# EAGLE library part W5100 (library WIZNET)
W5100 single-chip Internet-enabled 10/100 Ethernet controller The W5100 is a full-featured, single-chip Internet-enabled 10/100 Ethernet controller designed for embedded applications where ease of integration, stability, performance, area and system cost control are required. The W5100 has been designed to facilitate easy implementation of Internet connectivity without OS. The W5100 is IEEE 802.3 10BASE-T and 802.3u 100BASE-TX compliant.
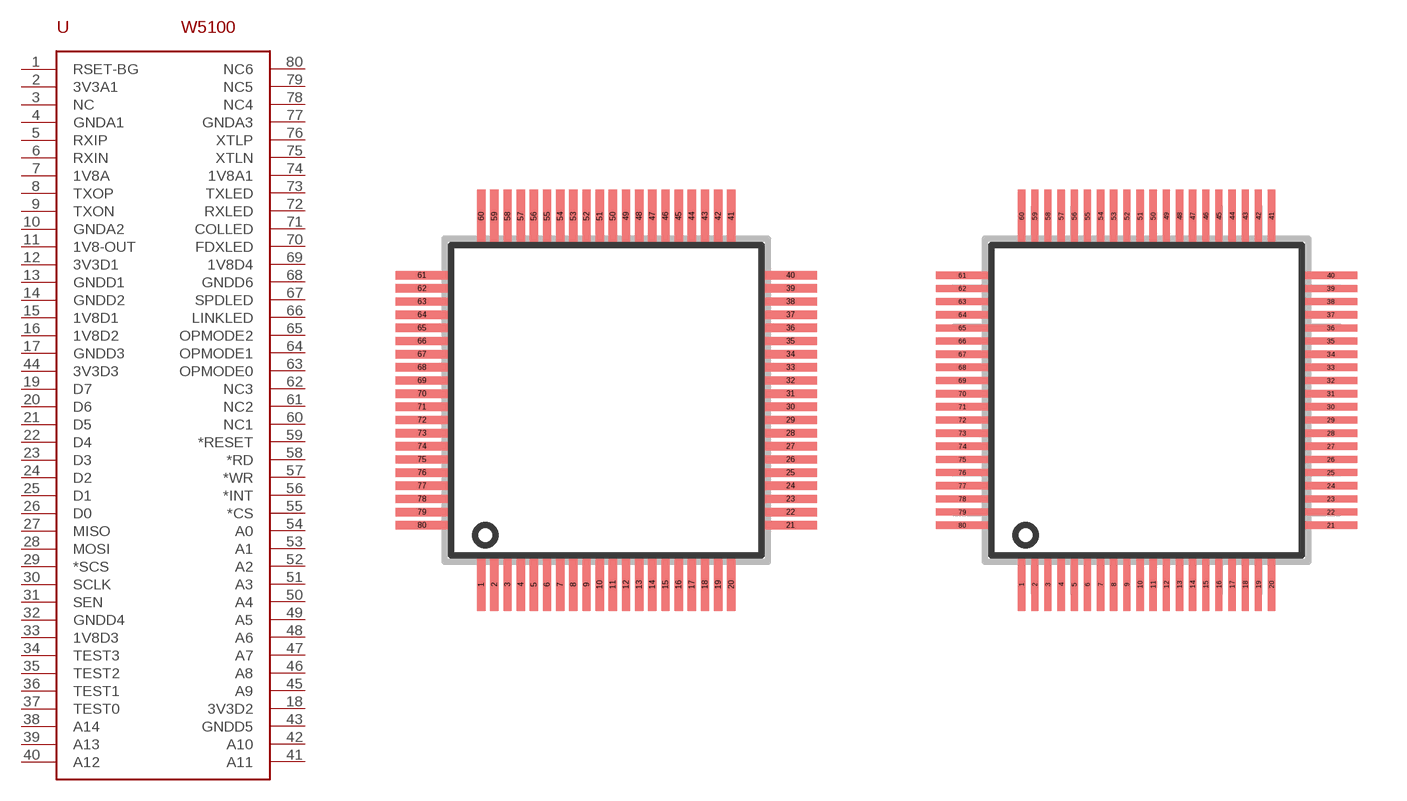
[diagram p0: symbol with the pads of W5100; footprints W5100, W5100SLIM]

Designator prefix -

## W5100NORMAL  [W5100]
1  RSET-BG  in
2  3V3A1  pwr
3  NC  nc
4  GNDA1  pwr
5  RXIP  in
6  RXIN  in
7  1V8A  pwr
8  TXOP  out
9  TXON  out
10  GNDA2  pwr
11  1V8-OUT  pwr
12  3V3D1  pwr
13  GNDD1  pwr
14  GNDD2  pwr
15  1V8D1  pwr
16  1V8D2  pwr
17  GNDD3  pwr
18  3V3D2  pwr
19  D7  in
20  D6  in
21  D5  in
22  D4  in
23  D3  in
24  D2  in
25  D1  in
26  D0  in
27  MISO  in
28  MOSI  out
29  *SCS  in
30  SCLK  in
31  SEN  in
32  GNDD4  pwr
33  1V8D3  pwr
34  TEST3  in
35  TEST2  in
36  TEST1  in
37  TEST0  in
38  A14  in
39  A13  in
40  A12  in
41  A11  in
42  A10  in
43  GNDD5  pwr
44  3V3D3  pwr
45  A9  in
46  A8  in
47  A7  in
48  A6  in
49  A5  in
50  A4  in
51  A3  in
52  A2  in
53  A1  in
54  A0  in
55  *CS  in
56  *INT  in
57  *WR  in
58  *RD  in
59  *RESET  in
60  NC1  nc
61  NC2  nc
62  NC3  nc
63  OPMODE0  in
64  OPMODE1  in
65  OPMODE2  in
66  LINKLED  out
67  SPDLED  out
68  GNDD6  pwr
69  1V8D4  pwr
70  FDXLED  out
71  COLLED  out
72  RXLED  out
73  TXLED  out
74  1V8A1  pwr
75  XTLN  out
76  XTLP  out
77  GNDA3  pwr
78  NC4  nc
79  NC5  nc
80  NC6  nc

## W5100SLIM  [W5100SLIM]
Pads as for W5100

## Footprint W5100 (pad centres in mm)
QFP80 shrink quad flat pack, square
smd 0.25 x 1.6: 1 -3.8,-5.6; 2 -3.4,-5.6; 3 -3,-5.6; 4 -2.6,-5.6; 5 -2.2,-5.6; 6 -1.8,-5.6; 7 -1.4,-5.6; 8 -1,-5.6; 9 -0.6,-5.6; 10 -0.2,-5.6; 11 0.2,-5.6; 12 0.6,-5.6; 13 1,-5.6; 14 1.4,-5.6; 15 1.8,-5.6; 16 2.2,-5.6; 17 2.6,-5.6; 18 3,-5.6; 19 3.4,-5.6; 20 3.8,-5.6; 41 3.8,5.6; 42 3.4,5.6; 43 3,5.6; 44 2.6,5.6; 45 2.2,5.6; 46 1.8,5.6; 47 1.4,5.6; 48 1,5.6; 49 0.6,5.6; 50 0.2,5.6; 51 -0.2,5.6; 52 -0.6,5.6; 53 -1,5.6; 54 -1.4,5.6; 55 -1.8,5.6; 56 -2.2,5.6; 57 -2.6,5.6; 58 -3,5.6; 59 -3.4,5.6; 60 -3.8,5.6
smd 1.6 x 0.25: 21 5.6,-3.8; 22 5.6,-3.4; 23 5.6,-3; 24 5.6,-2.6; 25 5.6,-2.2; 26 5.6,-1.8; 27 5.6,-1.4; 28 5.6,-1; 29 5.6,-0.6; 30 5.6,-0.2; 31 5.6,0.2; 32 5.6,0.6; 33 5.6,1; 34 5.6,1.4; 35 5.6,1.8; 36 5.6,2.2; 37 5.6,2.6; 38 5.6,3; 39 5.6,3.4; 40 5.6,3.8; 61 -5.6,3.8; 62 -5.6,3.4; 63 -5.6,3; 64 -5.6,2.6; 65 -5.6,2.2; 66 -5.6,1.8; 67 -5.6,1.4; 68 -5.6,1; 69 -5.6,0.6; 70 -5.6,0.2; 71 -5.6,-0.2; 72 -5.6,-0.6; 73 -5.6,-1; 74 -5.6,-1.4; 75 -5.6,-1.8; 76 -5.6,-2.2; 77 -5.6,-2.6; 78 -5.6,-3; 79 -5.6,-3.4; 80 -5.6,-3.8

## Footprint W5100SLIM (pad centres in mm)
smd 0.218 x 1.6: 1 -3.8,-5.6; 2 -3.4,-5.6; 3 -3,-5.6; 4 -2.6,-5.6; 5 -2.2,-5.6; 6 -1.8,-5.6; 7 -1.4,-5.6; 8 -1,-5.6; 9 -0.6,-5.6; 10 -0.2,-5.6; 11 0.2,-5.6; 12 0.6,-5.6; 13 1,-5.6; 14 1.4,-5.6; 15 1.8,-5.6; 16 2.2,-5.6; 17 2.6,-5.6; 18 3,-5.6; 19 3.4,-5.6; 20 3.8,-5.6; 41 3.8,5.6; 42 3.4,5.6; 43 3,5.6; 44 2.6,5.6; 45 2.2,5.6; 46 1.8,5.6; 47 1.4,5.6; 48 1,5.6; 49 0.6,5.6; 50 0.2,5.6; 51 -0.2,5.6; 52 -0.6,5.6; 53 -1,5.6; 54 -1.4,5.6; 55 -1.8,5.6; 56 -2.2,5.6; 57 -2.6,5.6; 58 -3,5.6; 59 -3.4,5.6; 60 -3.8,5.6
smd 1.6 x 0.218: 21 5.6,-3.8; 22 5.6,-3.4; 23 5.6,-3; 24 5.6,-2.6; 25 5.6,-2.2; 26 5.6,-1.8; 27 5.6,-1.4; 28 5.6,-1; 29 5.6,-0.6; 30 5.6,-0.2; 31 5.6,0.2; 32 5.6,0.6; 33 5.6,1; 34 5.6,1.4; 35 5.6,1.8; 36 5.6,2.2; 37 5.6,2.6; 38 5.6,3; 39 5.6,3.4; 40 5.6,3.8; 61 -5.6,3.8; 62 -5.6,3.4; 63 -5.6,3; 64 -5.6,2.6; 65 -5.6,2.2; 66 -5.6,1.8; 67 -5.6,1.4; 68 -5.6,1; 69 -5.6,0.6; 70 -5.6,0.2; 71 -5.6,-0.2; 72 -5.6,-0.6; 73 -5.6,-1; 74 -5.6,-1.4; 75 -5.6,-1.8; 76 -5.6,-2.2; 77 -5.6,-2.6; 78 -5.6,-3; 79 -5.6,-3.4; 80 -5.6,-3.8